# Altium schematic symbol library CAP_RET_0805_NIC.SchLib: 50 symbols
Pins are listed as number, name and electrical type; pins without a type are passive.

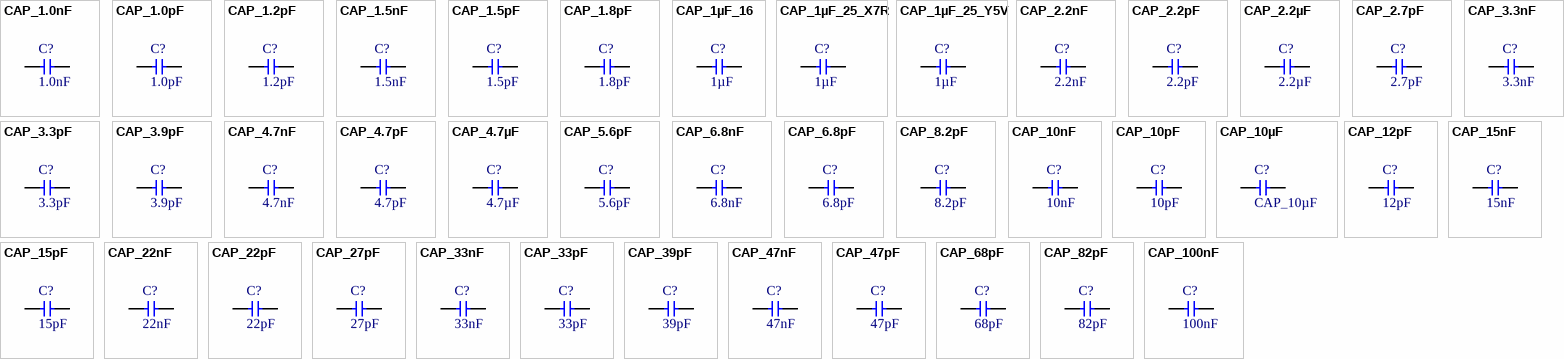
[diagram p0: symbols CAP_1.0nF to CAP_100nF]

## CAP_1.0nF
designator C?, comment 1.0nF
Ceramic Capacitor; Voltage: 50; Tolerance: ±5 %; Characteristic: NPO; num: 30; Supplier: RET 93-02-26
footprint FP_0805_CAP_125
pins: 1, 2

## CAP_1.0pF
designator C?, comment 1.0pF
Ceramic Capacitor; Voltage: 50; Tolerance: ±0.25pF; Characteristic: NPO; num: 1; Supplier: RET 93-01-98
footprint FP_0805_CAP_125
pins: 1, 2

## CAP_1.2pF
designator C?, comment 1.2pF
Ceramic Capacitor; Voltage: 50; Tolerance: ±0.25pF; Characteristic: NPO; num: 2; Supplier: RET 93-01-99
footprint FP_0805_CAP_125
pins: 1, 2

## CAP_1.5nF
designator C?, comment 1.5nF
Ceramic Capacitor; Voltage: 50; Tolerance: ±10 %; Characteristic: X7R; num: 31; Supplier: RET 93-02-27
footprint FP_0805_CAP_125
pins: 1, 2

## CAP_1.5pF
designator C?, comment 1.5pF
Ceramic Capacitor; Voltage: 50; Tolerance: ±0.25pF; Characteristic: NPO; num: 3; Supplier: RET 93-02-00
footprint FP_0805_CAP_125
pins: 1, 2

## CAP_1.8pF
designator C?, comment 1.8pF
Ceramic Capacitor; Voltage: 50; Tolerance: ±0.25pF; Characteristic: NPO; num: 4; Supplier: RET 93-02-01
footprint FP_0805_CAP_125
pins: 1, 2

## CAP_1µF_16
designator C?, comment 1µF
Ceramic Capacitor; Voltage: 16; Tolerance: -20+80%; Characteristic: Y5V; num: 45; Supplier: RET 93-04-23
footprint FP_0805_CAP_145
pins: 1, 2

## CAP_1µF_25_X7R
designator C?, comment 1µF
Ceramic Capacitor; Voltage: 25; Tolerance: ±10%; Characteristic: X7R; num: 46; Supplier: RET 93-04-79
footprint FP_0805_CAP_145
pins: 1, 2

## CAP_1µF_25_Y5V
designator C?, comment 1µF
Ceramic Capacitor; Voltage: 25; Tolerance: -20+80%; Characteristic: Y5V; num: 47; Supplier: RET 93-04-81
footprint FP_0805_CAP_145
pins: 1, 2

## CAP_2.2nF
designator C?, comment 2.2nF
Ceramic Capacitor; Voltage: 50; Tolerance: ±10 %; Characteristic: X7R; num: 32; Supplier: RET 93-02-28
footprint FP_0805_CAP_125
pins: 1, 2

## CAP_2.2pF
designator C?, comment 2.2pF
Ceramic Capacitor; Voltage: 50; Tolerance: ±0.25pF; Characteristic: NPO; num: 5; Supplier: RET 93-02-02
footprint FP_0805_CAP_125
pins: 1, 2

## CAP_2.2µF
designator C?, comment 2.2µF
Ceramic Capacitor; Voltage: 16; Tolerance: -20+80%; Characteristic: Y5V; num: 48; Supplier: RET 93-04-30
footprint FP_0805_CAP_145
pins: 1, 2

## CAP_2.7pF
designator C?, comment 2.7pF
Ceramic Capacitor; Voltage: 50; Tolerance: ±0.25pF; Characteristic: NPO; num: 6; Supplier: RET 93-02-03
footprint FP_0805_CAP_125
pins: 1, 2

## CAP_3.3nF
designator C?, comment 3.3nF
Ceramic Capacitor; Voltage: 50; Tolerance: ±10 %; Characteristic: X7R; num: 33; Supplier: RET 93-02-29
footprint FP_0805_CAP_125
pins: 1, 2

## CAP_3.3pF
designator C?, comment 3.3pF
Ceramic Capacitor; Voltage: 50; Tolerance: ±0.25pF; Characteristic: NPO; num: 7; Supplier: RET 93-02-04
footprint FP_0805_CAP_125
pins: 1, 2

## CAP_3.9pF
designator C?, comment 3.9pF
Ceramic Capacitor; Voltage: 50; Tolerance: ±0.25pF; Characteristic: NPO; num: 8; Supplier: RET 93-02-05
footprint FP_0805_CAP_125
pins: 1, 2

## CAP_4.7nF
designator C?, comment 4.7nF
Ceramic Capacitor; Voltage: 50; Tolerance: ±10 %; Characteristic: X7R; num: 34; Supplier: RET 93-02-30
footprint FP_0805_CAP_125
pins: 1, 2

## CAP_4.7pF
designator C?, comment 4.7pF
Ceramic Capacitor; Voltage: 50; Tolerance: ±0.25pF; Characteristic: NPO; num: 9; Supplier: RET 93-02-06
footprint FP_0805_CAP_125
pins: 1, 2

## CAP_4.7µF
designator C?, comment 4.7µF
Ceramic Capacitor; Voltage: 16; Tolerance: -20+80%; Characteristic: Y5V; num: 49; Supplier: RET 93-04-41
footprint FP_0805_CAP_145
pins: 1, 2

## CAP_5.6pF
designator C?, comment 5.6pF
Ceramic Capacitor; Voltage: 50; Tolerance: ±0.5pF; Characteristic: NPO; num: 10; Supplier: RET 93-02-07
footprint FP_0805_CAP_125
pins: 1, 2

## CAP_6.8nF
designator C?, comment 6.8nF
Ceramic Capacitor; Voltage: 50; Tolerance: ±10 %; Characteristic: X7R; num: 35; Supplier: RET 93-02-31
footprint FP_0805_CAP_125
pins: 1, 2

## CAP_6.8pF
designator C?, comment 6.8pF
Ceramic Capacitor; Voltage: 50; Tolerance: ±5 %; Characteristic: NPO; num: 11; Supplier: RET 93-02-08
footprint FP_0805_CAP_125
pins: 1, 2

## CAP_8.2pF
designator C?, comment 8.2pF
Ceramic Capacitor; Voltage: 50; Tolerance: ±5 %; Characteristic: NPO; num: 12; Supplier: RET 93-02-09
footprint FP_0805_CAP_125
pins: 1, 2

## CAP_10nF
designator C?, comment 10nF
Ceramic Capacitor; Voltage: 50; Tolerance: ±10 %; Characteristic: X7R; num: 36; Supplier: RET 93-02-32
footprint FP_0805_CAP_125
pins: 1, 2

## CAP_10pF
designator C?, comment 10pF
Ceramic Capacitor; Voltage: 50; Tolerance: ±5 %; Characteristic: NPO; num: 13; Supplier: RET 93-02-10
footprint FP_0805_CAP_125
pins: 1, 2

## CAP_10µF
designator C?
Ceramic Capacitor; Voltage: 10; Tolerance: -20+80%; Characteristic: Y5V; num: 50; Supplier: RET 93-04-42
footprint FP_0805_CAP_145
pins: 1, 2

## CAP_12pF
designator C?, comment 12pF
Ceramic Capacitor; Voltage: 50; Tolerance: ±5 %; Characteristic: NPO; num: 14; Supplier: RET 93-02-11
footprint FP_0805_CAP_125
pins: 1, 2

## CAP_15nF
designator C?, comment 15nF
Ceramic Capacitor; Voltage: 50; Tolerance: ±10 %; Characteristic: X7R; num: 37; Supplier: RET 93-02-33
footprint FP_0805_CAP_125
pins: 1, 2

## CAP_15pF
designator C?, comment 15pF
Ceramic Capacitor; Voltage: 50; Tolerance: ±5 %; Characteristic: NPO; num: 15; Supplier: RET 93-02-12
footprint FP_0805_CAP_125
pins: 1, 2

## CAP_22nF
designator C?, comment 22nF
Ceramic Capacitor; Voltage: 50; Tolerance: ±10 %; Characteristic: X7R; num: 38; Supplier: RET 93-02-34
footprint FP_0805_CAP_125
pins: 1, 2

## CAP_22pF
designator C?, comment 22pF
Ceramic Capacitor; Voltage: 50; Tolerance: ±5 %; Characteristic: NPO; num: 16; Supplier: RET 93-02-13
footprint FP_0805_CAP_125
pins: 1, 2

## CAP_27pF
designator C?, comment 27pF
Ceramic Capacitor; Voltage: 50; Tolerance: ±5 %; Characteristic: NPO; num: 17; Supplier: RET 93-02-14
footprint FP_0805_CAP_125
pins: 1, 2

## CAP_33nF
designator C?, comment 33nF
Ceramic Capacitor; Voltage: 50; Tolerance: ±10 %; Characteristic: X7R; num: 39; Supplier: RET 93-02-35
footprint FP_0805_CAP_125
pins: 1, 2

## CAP_33pF
designator C?, comment 33pF
Ceramic Capacitor; Voltage: 50; Tolerance: ±5 %; Characteristic: NPO; num: 18; Supplier: RET 93-02-15
footprint FP_0805_CAP_125
pins: 1, 2

## CAP_39pF
designator C?, comment 39pF
Ceramic Capacitor; Voltage: 50; Tolerance: ±5 %; Characteristic: NPO; num: 19; Supplier: RET 93-02-16
footprint FP_0805_CAP_125
pins: 1, 2

## CAP_47nF
designator C?, comment 47nF
Ceramic Capacitor; Voltage: 50; Tolerance: ±10 %; Characteristic: X7R; num: 40; Supplier: RET 93-02-36
footprint FP_0805_CAP_125
pins: 1, 2

## CAP_47pF
designator C?, comment 47pF
Ceramic Capacitor; Voltage: 50; Tolerance: ±5 %; Characteristic: NPO; num: 20; Supplier: RET 93-02-17
footprint FP_0805_CAP_125
pins: 1, 2

## CAP_68pF
designator C?, comment 68pF
Ceramic Capacitor; Voltage: 50; Tolerance: ±5 %; Characteristic: NPO; num: 21; Supplier: RET 93-02-18
footprint FP_0805_CAP_125
pins: 1, 2

## CAP_82pF
designator C?, comment 82pF
Ceramic Capacitor; Voltage: 50; Tolerance: ±5 %; Characteristic: NPO; num: 22; Supplier: RET 93-02-19
footprint FP_0805_CAP_125
pins: 1, 2

## CAP_100nF
designator C?, comment 100nF
Ceramic Capacitor; Voltage: 50; Tolerance: ±10 %; Characteristic: X7R; num: 41; Supplier: RET 93-02-37
footprint FP_0805_CAP_125
pins: 1, 2

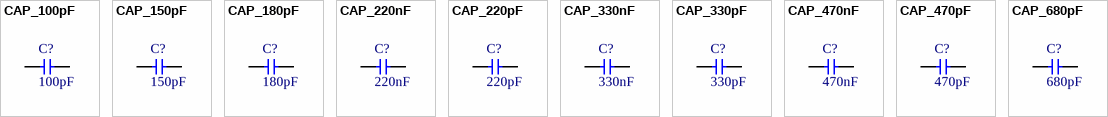
[diagram p1: symbols CAP_100pF to CAP_680pF]

## CAP_100pF
designator C?, comment 100pF
Ceramic Capacitor; Voltage: 50; Tolerance: ±5 %; Characteristic: NPO; num: 23; Supplier: RET 93-02-20
footprint FP_0805_CAP_125
pins: 1, 2

## CAP_150pF
designator C?, comment 150pF
Ceramic Capacitor; Voltage: 50; Tolerance: ±5 %; Characteristic: NPO; num: 24; Supplier: RET 93-02-21
footprint FP_0805_CAP_060 (0805 kapacitás YAGEO 0.6 mm magas)
footprint FP_0805_CAP_125
pins: 1, 2

## CAP_180pF
designator C?, comment 180pF
Ceramic Capacitor; Voltage: 50; Tolerance: ±5 %; Characteristic: NPO; num: 25; Supplier: RET 93-04-37
footprint FP_0805_CAP_125
pins: 1, 2

## CAP_220nF
designator C?, comment 220nF
Ceramic Capacitor; Voltage: 16; Tolerance: ±10 %; Characteristic: X7R; num: 42; Supplier: RET 93-02-38
footprint FP_0805_CAP_060 (0805 kapacitás YAGEO 0.6 mm magas)
footprint FP_0805_CAP_145
pins: 1, 2

## CAP_220pF
designator C?, comment 220pF
Ceramic Capacitor; Voltage: 50; Tolerance: ±5 %; Characteristic: NPO; num: 26; Supplier: RET 93-02-22
footprint FP_0805_CAP_125
pins: 1, 2

## CAP_330nF
designator C?, comment 330nF
Ceramic Capacitor; Voltage: 50; Tolerance: -20+80%; Characteristic: Y5V; num: 43; Supplier: RET 93-03-96
footprint FP_0805_CAP_125
pins: 1, 2

## CAP_330pF
designator C?, comment 330pF
Ceramic Capacitor; Voltage: 50; Tolerance: ±5 %; Characteristic: NPO; num: 27; Supplier: RET 93-02-23
footprint FP_0805_CAP_125
pins: 1, 2

## CAP_470nF
designator C?, comment 470nF
Ceramic Capacitor; Voltage: 25; Tolerance: -20+80%; Characteristic: Y5V; num: 44; Supplier: RET 93-03-97
footprint FP_0805_CAP_125
pins: 1, 2

## CAP_470pF
designator C?, comment 470pF
Ceramic Capacitor; Voltage: 50; Tolerance: ±5 %; Characteristic: NPO; num: 28; Supplier: RET 93-02-24
footprint FP_0805_CAP_125
pins: 1, 2

## CAP_680pF
designator C?, comment 680pF
Ceramic Capacitor; Voltage: 50; Tolerance: ±5 %; Characteristic: NPO; num: 29; Supplier: RET 93-02-25
footprint FP_0805_CAP_125
pins: 1, 2